# Altium schematic symbol library boost.SchLib: 16 symbols
Pins are listed as number, name and electrical type; pins without a type are passive.

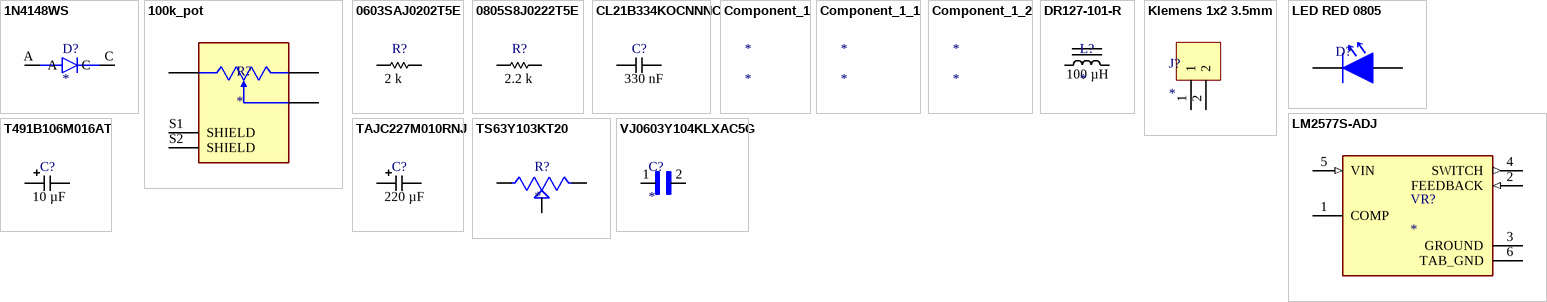
[diagram p0: symbols 1N4148WS to VJ0603Y104KLXAC5G]

## 1N4148WS
designator D?
1N4148WS Series 75 V 300 mA Surface Mount Small Signal Diodes - SOD-323F; MF: {'manufacturer': u'ON'}; Package: None; Value: *; Availability: Unavailable; Price: None; MP: 1N4148WS
footprint SODFL2512X100N
pins: A, C

## 100k_pot
designator R?
100k Ohm 1 Gang Linear Panel Mount Potentiometer None 1 Kierros Conductive Plastic 0.05W, 1/20W PC Pins, Board Locks; MF: {'manufacturer': u'BI Technologies (TT electronics)'}; MP: P0915N-FC15BR100K; Package: None; Price: None; Value: *; Availability: Unavailable
footprint TRIM_P0915N-FC15BR100K
pins: 1, 2, 3, S1 SHIELD, S2 SHIELD

## 0603SAJ0202T5E
designator R?  Resistance: 2 k  (hidden comment: *)
RES SMD 2K OHM 5% 1/10W 0603
footprint ROYALOHM_RES_0603
pins: 1, 2

## 0805S8J0222T5E
designator R?  Resistance: 2.2 k  (hidden comment: *)
RES SMD 2.2K OHM 5% 1/8W 0805
footprint ROYALOHM_RES_0805
pins: 1, 2

## CL21B334KOCNNNC
designator C?  Capacitance: 330 nF  (hidden comment: *)
CAP CER 0.33UF 16V X7R 0805; Supplier 1: Digi-Key; Supplier 2: Mouser; Supplier 3: Arrow Electronics; Supplier Part Number 1: 1276-1797-1-ND; Supplier Part Number 2: 187-CL21B334KOCNNNC; Supplier Part Number 3: CL21B334KOCNNNC
footprint SAMSUNG_CAP_0805_095
pins: 1, 2

## Component_1
designator *

## Component_1_1
designator *

## Component_1_2
designator *

## DR127-101-R
designator L?  Inductance: 100 µH
FIXED IND 100UH 1.96A 163 MOHM; Supplier 1: Digi-Key; Supplier 2: Farnell; Supplier 3: Mouser; Supplier 4: Arrow Electronics; Supplier Part Number 1: 513-1038-1-ND; Supplier Part Number 2: 3650504; Supplier Part Number 3: 704-DR127-101-R; Supplier Part Number 4: DR127-101-R
footprint EATON_DR127
pins: 1, 2

## Klemens 1x2 3.5mm
designator J?
Klemens 1x2 3.5mm
footprint Klemens 1x2 - 3.5mm
pins: 1, 2

## LED RED 0805
designator D?, comment LH R974-LP-1  (value not drawn)
LED Uni-Color Hyper Red 660nm 2-Pin Chip 0805(2012Metric) T/R; Manufacturer: Osram Opto; Lens Color: White; Forward Voltage: 1.8V; Lens Style: Diffused,Flat,Colorless; Luminous Intensity: 71mcd; Viewing Angle: 160°; Forward Current: 30mA; Dominant Wavelength: 645nm; Number of Elements: 1; Test Current: 20mA; Reverse Voltage: 5V; Lens Transparency: Diffused; Luminous Flux: 0.17lm; Lens Size: 1.25mm; Designed by: BERK; Supplier 1: Digi-Key; Manufacturer Part Number: LH R974-LP-1; RoHS: Yes; Category: LEDs; Stock 1: 35632; Pricing 1: 1=0,26000, 10=0,13900, 100=0,06480, 500=0,05978, 1000=0,04683, 2000=0,04584 (USD); Mount: Surface Mount; Case/Package: 0805; Number of Pins: 2; Color: Red; Case Code (Imperial): 0805; Case Code (Metric): 2012; Min Operating Temperature: -30°C; Max Operating Temperature: 85°C; Packaging: Tape and Reel; Illumination Color: Red; Package Quantity: 1; Series: CHipLED; Length: 2.1mm; Width: 1.25mm; Depth: 1.35mm; Radiation Hardening: No; RoHS Compliant: Yes; ComponentLink1URL: http://www.jameco.com/Jameco/Products/ProdDS/2085634.pdf?src-supplier=Jameco; ComponentLink1Description: http://www.jameco.com/Jameco/Products/ProdDS/2085634.pdf?src-supplier=Jameco; ComponentLink2URL: http://components.arrow.com/part/dataview/0323_01825492?src-supplier=Arrow+Europe; ComponentLink2Description: http://components.arrow.com/part/dataview/0323_01825492?src-supplier=Arrow+Europe; ComponentLink3URL: https://dammedia.osram.info/media/resource/hires/osram-dam-2493888/LH%20R974.pdf?src-supplier=Digi-Key; ComponentLink3Description: https://dammedia.osram.info/media/resource/hires/osram-dam-2493888/LH%20R974.pdf?src-supplier=Digi-Key; ComponentLink4URL: http://www.mouser.com/ds/2/311/LH%20R974%20-%20CHIPLED%200805-318659.pdf?src-supplier=Mouser; ComponentLink4Description: http://www.mouser.com/ds/2/311/LH%20R974%20-%20CHIPLED%200805-318659.pdf?src-supplier=Mouser; ComponentLink5URL: https://www.verical.com/server-webapp/html/getDatasheet?partID=258950&src-supplier=Verical; ComponentLink5Description: https://www.verical.com/server-webapp/html/getDatasheet?partID=258950&src-supplier=Verical; ComponentLink6URL: http://components.arrow.com/part/dataview/41971690S1077610N9133?src-supplier=Arrow+Electronics; ComponentLink6Description: http://components.arrow.com/part/dataview/41971690S1077610N9133?src-supplier=Arrow+Electronics; ComponentLink7URL: http://components.arrow.com/part/dataview/41971690S6190115N2128?src-supplier=Arrow+Electronics; ComponentLink7Description: http://components.arrow.com/part/dataview/41971690S6190115N2128?src-supplier=Arrow+Electronics; Supplier Part Number 1: 475-1415-1-ND
footprint LED_RED_0805
pins: 1 (power), 2 (power)

## LM2577S-ADJ
designator VR?
MF: {'manufacturer': u'Texas Instruments'}; MP: LM2577S-ADJ; Package: None; Price: None; Value: *; Availability: Unavailable
footprint TO170P1524X483-6N
pins: 1 COMP, 2 FEEDBACK (in), 3 GROUND (power), 4 SWITCH (out), 5 VIN (in), 6 TAB_GND (power)

## T491B106M016AT
designator C?  Capacitance: 10 µF  (hidden comment: *)
CAP TANT 10UF 20% 16V 1411; Supplier 1: Digi-Key; Supplier 2: Farnell; Supplier 3: Mouser; Supplier Part Number 1: 399-3708-1-ND; Supplier Part Number 2: 2462772; Supplier Part Number 3: 80-T491B106M016
footprint KEMET_CAP_TAN-B
pins: 1, 2

## TAJC227M010RNJ
designator C?  Capacitance: 220 µF  (hidden comment: *)
CAP TANT 220UF 20% 10V 2312; Supplier 1: Digi-Key; Supplier 2: Mouser; Supplier 3: Arrow Electronics; Supplier Part Number 3: TAJC227M010RNJ; Supplier Part Number 2: 581-TAJC227M010RNJ; Supplier Part Number 1: 478-8899-1-ND
footprint KYOCERA_CAP_TAN-C
pins: 1, 2

## TS63Y103KT20
designator R?
MF: {'manufacturer': u'Vishay'}; MP: TS63Y103KT20; Package: None; Price: None; Value: *; Availability: Unavailable
footprint TRIM_TS63Y103KT20
pins: 1 A, 2 B, 3 C

## VJ0603Y104KLXAC5G
designator C?
Multilayer Ceramic Capacitors MLCC - SMD/SMT 100nF 25volts 10%; MF: {'manufacturer': u'Vishay'}; MP: VJ0603Y104KLXAC5G; Package: None; Price: None; Value: *; Availability: Unavailable
footprint CAPC1608X92N
pins: 1, 2